# Altium footprint library Power Connector.PcbLib: 3 footprints
Each footprint in its own frame and in the unit in brackets; x right, y up, seen from the top. Pads: shape width x height; smd on the part's side, far side on the other; paste and mask are expansions set on the pad; w line width, h text height; cw(c..) or ccw(c..) is an arc to the next point about the centre after c.
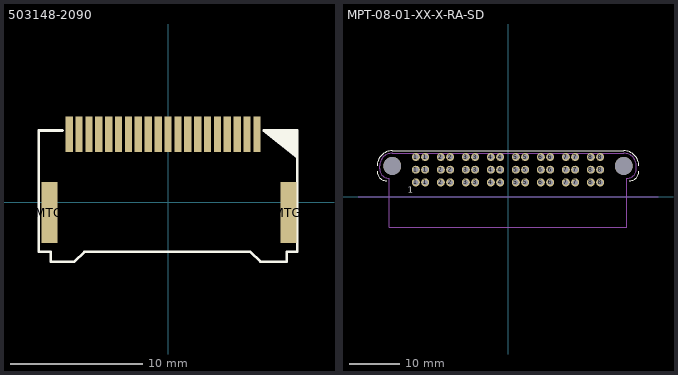
[diagram p0: the footprints below, top view; thin cyan lines are the x and y axes]

## 503148-2090 [mm]
pads (22):
  rect 0.55x2.7 smd: 1(6.75,5.175) 2(6,5.175) 3(5.25,5.175) 4(4.5,5.175) 5(3.75,5.175) 6(3,5.175) 7(2.25,5.175) 8(1.5,5.175) 9(0.75,5.175) 10(0,5.175) 11(-0.75,5.175) 12(-1.5,5.175) 13(-2.25,5.175) 14(-3,5.175) 15(-3.75,5.175) 16(-4.5,5.175) 17(-5.25,5.175) 18(-6,5.175) 19(-6.75,5.175) 20(-7.5,5.175)
  rect 1.2x4.65 smd: MTG(-8.98,-0.775) MTG(9.13,-0.775)
Top Overlay:
  region: 9.8,3.4 7.419,5.281 7.406,5.308 7.372,5.359 7.329,5.403 7.278,5.437 7.25,5.45 9.8,5.45
  lines w0.2: -8,5.45 -9.8,5.45 -9.8,-3.75 -8.9,-3.75 -8.9,-4.5 -7.1,-4.5 -6.35,-3.75 6.25,-3.75 7,-4.5 9,-4.5 9,-3.75 9.8,-3.75 9.8,3.4 ; 9.8,3.4 7.25,5.45 9.8,5.45 9.8,3.4
3D body "5031482090.stp": height 9.18, standoff -0.02, extent -9.65,-4.375 9.65,5.175

## MPT-08-01-XX-X-RA-SD [mm]
pads (50):
  round 1.6 hole 1.04: 1(-18.44,2.85) 1(-18.44,5.39) 1(-18.44,7.93) 1(-16.56,2.85) 1(-16.56,5.39) 1(-16.56,7.93) 2(-13.44,2.85) 2(-13.44,5.39) 2(-13.44,7.93) 2(-11.56,2.85) 2(-11.56,5.39) 2(-11.56,7.93) 3(-8.44,2.85) 3(-8.44,5.39) 3(-8.44,7.93) 3(-6.56,2.85) 3(-6.56,5.39) 3(-6.56,7.93) 4(-3.44,2.85) 4(-3.44,5.39) 4(-3.44,7.93) 4(-1.56,2.85) 4(-1.56,5.39) 4(-1.56,7.93) 5(1.56,2.85) 5(1.56,5.39) 5(1.56,7.93) 5(3.44,2.85) 5(3.44,5.39) 5(3.44,7.93) 6(6.56,2.85) 6(6.56,5.39) 6(6.56,7.93) 6(8.44,2.85) 6(8.44,5.39) 6(8.44,7.93) 7(11.56,2.85) 7(11.56,5.39) 7(11.56,7.93) 7(13.44,2.85) 7(13.44,5.39) 7(13.44,7.93) 8(16.56,2.85) 8(16.56,5.39) 8(16.56,7.93) 8(18.44,2.85) 8(18.44,5.39) 8(18.44,7.93)
  round 3.56 hole 3.56 unplated: ""(-23.14,6.15) ""(23.14,6.15)
Top Overlay:
  lines w0.127: -26.18,5.095 ccw(c-24.275,5.095) -24.275,3.19 ; -26.18,6.15 cw(c-23.14,6.15) -23.14,9.19 23.14,9.19 cw(c23.14,6.15) 26.18,6.15 ; 24.275,3.19 ccw(c24.275,5.095) 26.18,5.095
  text "1" at -20.066,0.762 h1.27
Mechanical 13:
  lines w0.127: -30,0 30,0 ; -25.68,5.595 ccw(c-23.775,5.595) -23.775,3.69 -23.775,-6.12 23.775,-6.12 23.775,3.69 ccw(c23.775,5.595) 25.68,5.595 25.68,6.15 ccw(c23.14,6.15) 23.14,8.69 -23.14,8.69 ccw(c-23.14,6.15) -25.68,6.15 -25.68,5.595
3D body "MPT-08-01-03-L-RA-SD.stp": height 12.45, standoff -1.86, extent -25.553,-6.174 25.807,8.636

## PCBComponent_1 [mm]